# Altium footprint library Switch.PcbLib: 1 footprints
Each footprint in its own frame and in the unit in brackets; x right, y up, seen from the top. Pads: shape width x height; smd on the part's side, far side on the other; paste and mask are expansions set on the pad; w line width, h text height; cw(c..) or ccw(c..) is an arc to the next point about the centre after c.
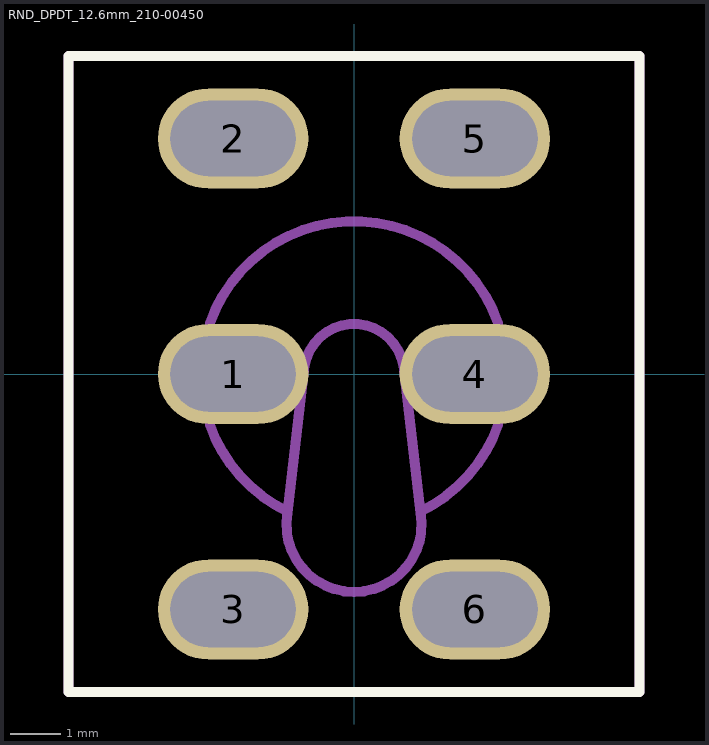
[diagram p0: the footprint, top view; thin cyan lines are the x and y axes]

## RND_DPDT_12.6mm_210-00450 [mm]
pads (6):
  oval 3x2 hole 1.5 slot 2.5 at 0 deg: 1(-2.413,0) 2(-2.413,4.699) 3(-2.413,-4.699) 4(2.413,0) 5(2.413,4.699) 6(2.413,-4.699)
Top Overlay:
  lines w0.2: -5.7,-6.35 5.7,-6.35 5.7,6.35 -5.7,6.35 -5.7,-6.35
Top Assembly:
  lines w0.2: -1.327,-2.746 cw(c0,0) -2.875,-1.018 -2.875,1.018 cw(c0,0) 2.875,1.018 2.875,-1.018 cw(c0,0) 1.327,-2.746 ; -5.7,-6.35 -5.7,6.35 5.7,6.35 5.7,-6.35 -5.7,-6.35 ; -1.329,-2.766 ccw(c0,-3) 1.329,-2.766 0.985,0.174 ccw(c0,0) -0.985,0.174 -1.329,-2.766
3D body: height -3.25, standoff -3.65, extent 1.397,4.318 3.429,5.08
3D body: height -1.25, standoff -3.25, extent 1.397,4.318 1.778,5.08
3D body: height -1.25, standoff -3.25, extent 3.048,4.318 3.429,5.08
3D body: height 1, standoff -1.25, extent 1.397,4.318 3.429,5.08
3D body: height -3.25, standoff -3.65, extent 1.397,-0.381 3.429,0.381
3D body: height -1.25, standoff -3.25, extent 1.397,-0.381 1.778,0.381
3D body: height -1.25, standoff -3.25, extent 3.048,-0.381 3.429,0.381
3D body: height 1, standoff -1.25, extent 1.397,-0.381 3.429,0.381
3D body: height -3.25, standoff -3.65, extent 1.397,-5.08 3.429,-4.318
3D body: height -1.25, standoff -3.25, extent 1.397,-5.08 1.778,-4.318
3D body: height -1.25, standoff -3.25, extent 3.048,-5.08 3.429,-4.318
3D body: height 1, standoff -1.25, extent 1.397,-5.08 3.429,-4.318
3D body: height -3.25, standoff -3.65, extent -3.429,-5.08 -1.397,-4.318
3D body: height -1.25, standoff -3.25, extent -3.429,-5.08 -3.048,-4.318
3D body: height -1.25, standoff -3.25, extent -1.778,-5.08 -1.397,-4.318
3D body: height 1, standoff -1.25, extent -3.429,-5.08 -1.397,-4.318
3D body: height -3.25, standoff -3.65, extent -3.429,-0.381 -1.397,0.381
3D body: height -1.25, standoff -3.25, extent -3.429,-0.381 -3.048,0.381
3D body: height -1.25, standoff -3.25, extent -1.778,-0.381 -1.397,0.381
3D body: height 1, standoff -1.25, extent -3.429,-0.381 -1.397,0.381
3D body: height -3.25, standoff -3.65, extent -3.429,4.318 -1.397,5.08
3D body: height -1.25, standoff -3.25, extent -3.429,4.318 -3.048,5.08
3D body: height -1.25, standoff -3.25, extent -1.778,4.318 -1.397,5.08
3D body: height 1, standoff -1.25, extent -3.429,4.318 -1.397,5.08
3D body: height 0.5, standoff 0, extent -5.7,5.588 5.7,6.35
3D body: height 0.5, standoff 0, extent -5.7,-6.35 5.7,-5.588
3D body: height 10.5, standoff 0.5, extent -5.7,-6.35 5.7,6.35
3D body: height 16.85, standoff 10.5, extent -2.875,-3.05 2.875,3.05
3D body: height 23.57, standoff 15.04, extent -1.35,-4.039 1.35,1.269
3D body: height 24.45, standoff 21.75, extent -1.35,-4.115 1.35,-1.415